# Altium schematic symbol library TSW-123-07-L-D.SchLib: 1 symbol
Pins are listed as number, name and electrical type; pins without a type are passive.

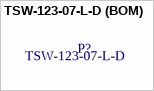
[diagram p0: symbol TSW-123-07-L-D (BOM)]

## TSW-123-07-L-D (BOM)
designator P?  (value not drawn)  (mechanical)
Conn Unshrouded Header HDR 46 POS 2.54mm Solder ST Thru-Hole; Supplier 1: Digi-Key; Supplier Part Number 1: SAM1030-23-ND
text: TSW-123-07-L-D